# EAGLE library part OG-HEADER_M05X2 (library braids_v50)
Header 5x2 Standard 10-pin dual row 0.1" header. Commonly used with AVR-ISP. Use with Spark Fun Electronics SKU: PRT-00778
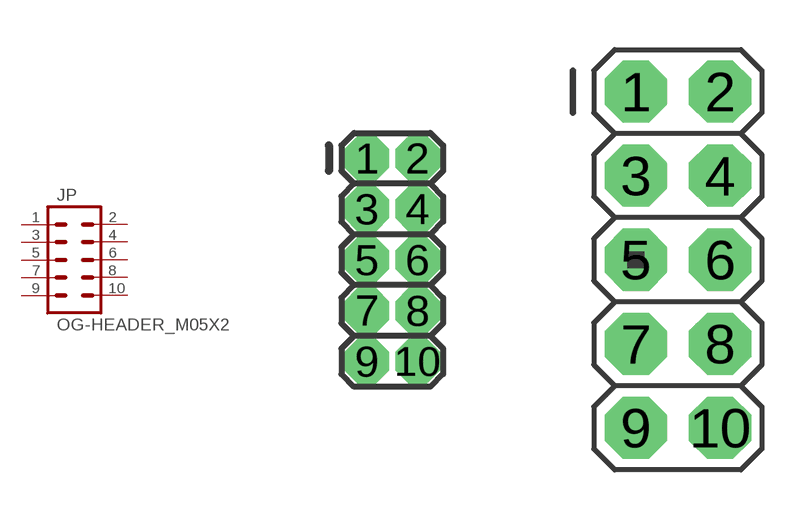
[diagram p8: symbol with the pads of OG-HEADER_2X5-1.27; footprints OG-HEADER_2X5-1.27, OG-HEADER_AVR_ICSP]

Designator prefix JP

## OG-HEADER_M05X2MINIJTAG  [OG-HEADER_2X5-1.27]
1  1  pas
2  2  pas
3  3  pas
4  4  pas
5  5  pas
6  6  pas
7  7  pas
8  8  pas
9  9  pas
10  10  pas

## OG-HEADER_M05X2PTH  [OG-HEADER_AVR_ICSP]
Pads as for OG-HEADER_2X5-1.27

## OG-HEADER_M05X2RA  [OG-HEADER_2X5-RA]
Pads as for OG-HEADER_2X5-1.27

## OG-HEADER_M05X2RAF  [OG-HEADER_2X5-RAF]
Pads as for OG-HEADER_2X5-1.27

## OG-HEADER_M05X2SHD  [OG-HEADER_2X5-SHROUDED]
Pads as for OG-HEADER_2X5-1.27

## OG-HEADER_M05X2SHD_LOCK  [OG-HEADER_2X5-SHROUDED_LOCK]
Pads as for OG-HEADER_2X5-1.27

## Footprint OG-HEADER_2X5-1.27 (pad centres in mm)
drill 0.61 pad 1.067 octagon: 1 -1.27,3.81; 2 0,3.81; 3 -1.27,2.54; 4 0,2.54; 5 -1.27,1.27; 6 0,1.27; 7 -1.27,0; 8 0,0; 9 -1.27,-1.27; 10 0,-1.27

## Footprint OG-HEADER_AVR_ICSP (pad centres in mm)
PIN HEADER
drill 1.016 pad 1.88 octagon: 1 -1.27,5.08; 2 1.27,5.08; 3 -1.27,2.54; 4 1.27,2.54; 5 -1.27,0; 6 1.27,0; 7 -1.27,-2.54; 8 1.27,-2.54; 9 -1.27,-5.08; 10 1.27,-5.08

## Footprint OG-HEADER_2X5-RA (pad centres in mm)
drill 1.016 pad 1.88 octagon: 1 -1.27,5.08; 2 1.27,5.08; 3 -1.27,2.54; 4 1.27,2.54; 5 -1.27,0; 6 1.27,0; 7 -1.27,-2.54; 8 1.27,-2.54; 9 -1.27,-5.08; 10 1.27,-5.08

## Footprint OG-HEADER_2X5-RAF (pad centres in mm)
drill 1.016 pad 1.88 octagon: 1 -1.27,5.08; 2 1.27,5.08; 3 -1.27,2.54; 4 1.27,2.54; 5 -1.27,0; 6 1.27,0; 7 -1.27,-2.54; 8 1.27,-2.54; 9 -1.27,-5.08; 10 1.27,-5.08

## Footprint OG-HEADER_2X5-SHROUDED (pad centres in mm)
drill 1.016 pad 1.88 octagon: 1 -1.27,5.08; 2 1.27,5.08; 3 -1.27,2.54; 4 1.27,2.54; 5 -1.27,0; 6 1.27,0; 7 -1.27,-2.54; 8 1.27,-2.54; 9 -1.27,-5.08; 10 1.27,-5.08

## Footprint OG-HEADER_2X5-SHROUDED_LOCK (pad centres in mm)
drill 1.016 pad 1.88 octagon: 1 -1.397,5.08; 2 1.397,5.08; 3 -1.397,2.54; 4 1.397,2.54; 5 -1.397,0; 6 1.397,0; 7 -1.397,-2.54; 8 1.397,-2.54; 9 -1.397,-5.08; 10 1.397,-5.08